# Altium footprint library CG2179M2.PcbLib: 1 footprints
Each footprint in its own frame and in the unit in brackets; x right, y up, seen from the top. Pads: shape width x height; smd on the part's side, far side on the other; paste and mask are expansions set on the pad; w line width, h text height; cw(c..) or ccw(c..) is an arc to the next point about the centre after c.
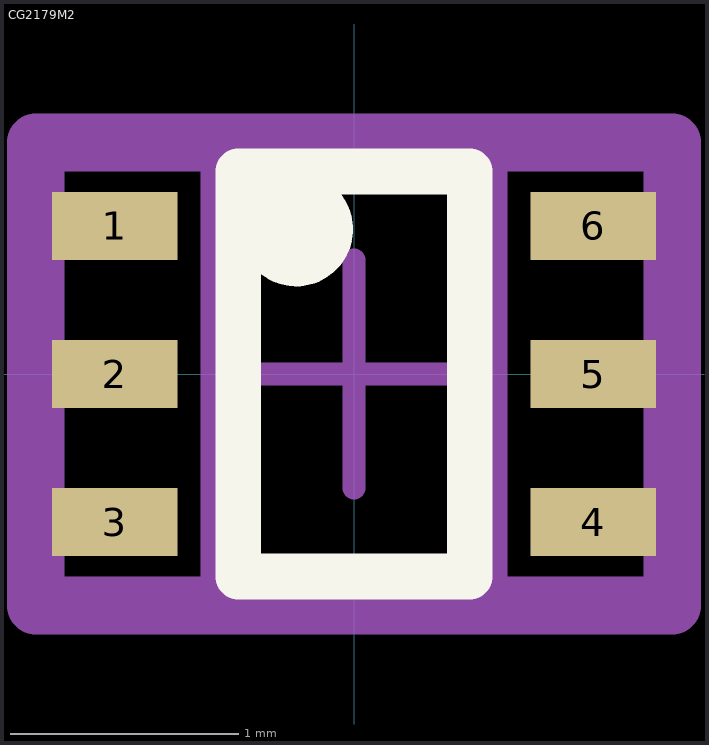
[diagram p0: the footprint, top view; thin cyan lines are the x and y axes]

## CG2179M2 [mm] "6pin 1.25x2 package"
pads (6):
  rect 0.55x0.3 smd: 1(-1.05,0.65) 2(-1.05,0) 3(-1.05,-0.65) 4(1.05,-0.65) 5(1.05,0) 6(1.05,0.65)
Top Overlay:
  circle w0.25: c-0.254,0.635 r0.125
  lines w0.2: -0.508,-0.889 -0.508,0.889 0.508,0.889 0.508,-0.889 -0.508,-0.889
Mechanical 13:
  lines w0.1: -0.625,-1 0.625,-1 0.625,1 -0.625,1 -0.625,-1
Mechanical 15:
  lines w0.1: -0.5,0 0.5,0 ; 0,-0.5 0,0.5
  lines w0.254: -1.397,-1.016 -1.397,1.016 1.397,1.016 1.397,-1.016 -1.397,-1.016
Mechanical 17:
  text "'.Designator'" at -1.397,-0.025 h0.25
Mechanical 19:
  text "'.Comment'" at -1.143,-0.051 h0.25
3D body: height 0.9, standoff 0, extent -0.686,-1.041 0.66,1.016